# Altium schematic symbol library 2SD313.SchLib: 1 symbol
Pins are listed as number, name and electrical type; pins without a type are passive.

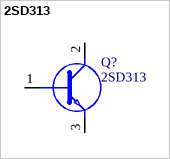
[diagram p0: symbol 2SD313]

## 2SD313
designator Q?
NPN Transistor, TO-220; Manufacturer_Name: MOSPEC; Geometry.Height: 4.98mm; Manufacturer_Part_Number: 2SD313; Mouser Part Number: *; Mouser Price/Stock: *; Arrow Part Number: *; Arrow Price/Stock: *; Mouser Testing Part Number: *; Mouser Testing Price/Stock: *; Datasheet Link: https://pdf1.alldatasheet.com/datasheet-pdf/view/2570/MOSPEC/2SD313.html
footprint TO304P498X1010X2089-3P
pins: 1 B, 2 C, 3 E